# EAGLE library part SPARKFUN_IMU (library AmandaEagleLibrary)
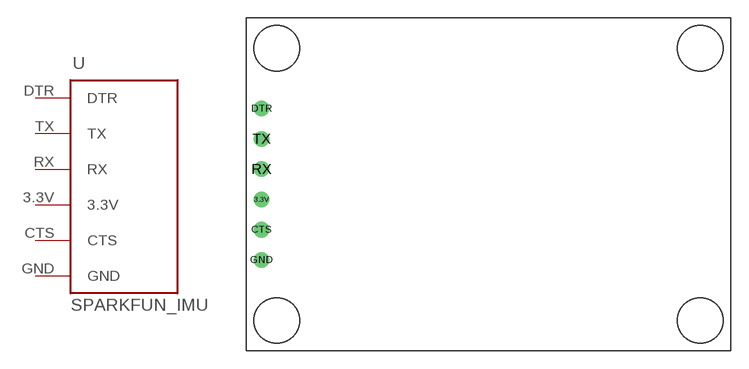
[diagram p11: symbol with the pads of SPARKFUN_IMU; footprint SPARKFUN_IMU]

Designator prefix -

## SPARKFUN_IMU  [SPARKFUN_IMU]
3.3V  3.3V
CTS  CTS
DTR  DTR
GND  GND
RX  RX
TX  TX

## Footprint SPARKFUN_IMU (pad centres in mm)
drill 0.8: 3.3V 1.27,12.7; CTS 1.27,10.16; DTR 1.27,20.32; GND 1.27,7.62; RX 1.27,15.24; TX 1.27,17.78